# EAGLE library part DIN_32_A_C_REQUEST (library Stecker_Pins)
Messerleiste 32, A & C, request
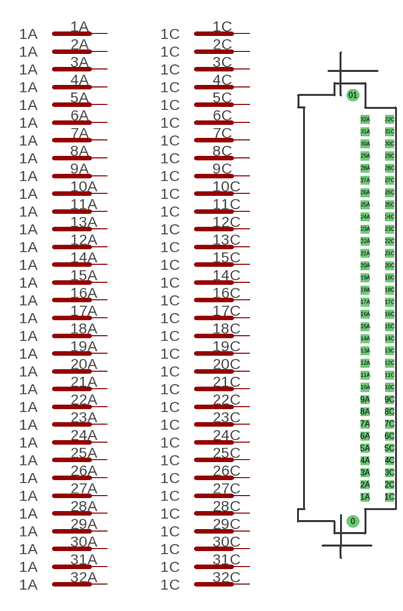
[diagram p19: symbol with the pads of DIN_32A_C; footprint DIN_32A_C]

Designator prefix K; gates G$1=PIN_A G$2=PIN_A G$3=PIN_A G$4=PIN_A G$5=PIN_A G$6=PIN_A G$7=PIN_A G$8=PIN_A G$9=PIN_A G$10=PIN_A G$11=PIN_A G$12=PIN_A G$13=PIN_A G$14=PIN_A G$15=PIN_A G$16=PIN_A G$17=PIN_A G$18=PIN_A G$19=PIN_A G$20=PIN_A G$21=PIN_A G$22=PIN_A G$23=PIN_A G$24=PIN_A G$25=PIN_A G$26=PIN_A G$27=PIN_A G$28=PIN_A G$29=PIN_A G$30=PIN_A G$31=PIN_A G$32=PIN_A G$33=PIN_C G$34=PIN_C G$35=PIN_C G$36=PIN_C G$37=PIN_C G$38=PIN_C G$39=PIN_C G$40=PIN_C G$41=PIN_C G$42=PIN_C G$43=PIN_C G$44=PIN_C G$45=PIN_C G$46=PIN_C G$47=PIN_C G$48=PIN_C G$49=PIN_C G$50=PIN_C G$51=PIN_C G$52=PIN_C G$53=PIN_C G$54=PIN_C G$55=PIN_C G$56=PIN_C G$57=PIN_C G$58=PIN_C G$59=PIN_C G$60=PIN_C G$61=PIN_C G$62=PIN_C G$63=PIN_C G$64=PIN_C

## DIN_32_A_C_REQUEST  [DIN_32A_C]
1A  G$1:1A
1C  G$33:1C
2A  G$2:1A
2C  G$34:1C
3A  G$3:1A
3C  G$35:1C
4A  G$4:1A
4C  G$36:1C
5A  G$5:1A
5C  G$37:1C
6A  G$6:1A
6C  G$38:1C
7A  G$7:1A
7C  G$39:1C
8A  G$8:1A
8C  G$40:1C
9A  G$9:1A
9C  G$41:1C
10A  G$10:1A
10C  G$42:1C
11A  G$11:1A
11C  G$43:1C
12A  G$12:1A
12C  G$44:1C
13A  G$13:1A
13C  G$45:1C
14A  G$14:1A
14C  G$46:1C
15A  G$15:1A
15C  G$47:1C
16A  G$16:1A
16C  G$48:1C
17A  G$17:1A
17C  G$49:1C
18A  G$18:1A
18C  G$50:1C
19A  G$19:1A
19C  G$51:1C
20A  G$20:1A
20C  G$52:1C
21A  G$21:1A
21C  G$53:1C
22A  G$22:1A
22C  G$54:1C
23A  G$23:1A
23C  G$55:1C
24A  G$24:1A
24C  G$56:1C
25A  G$25:1A
25C  G$57:1C
26A  G$26:1A
26C  G$58:1C
27A  G$27:1A
27C  G$59:1C
28A  G$28:1A
28C  G$60:1C
29A  G$29:1A
29C  G$61:1C
30A  G$30:1A
30C  G$62:1C
31A  G$31:1A
31C  G$63:1C
32A  G$32:1A
32C  G$64:1C

## Footprint DIN_32A_C (pad centres in mm)
drill 0.6 pad 2.54: 0 0,-44.45
drill 0.813 pad 2.54: 01 0,44.45
drill 0.8 pad 1.778 square: 1A 2.54,-39.37; 1C 7.62,-39.37; 2A 2.54,-36.83; 2C 7.62,-36.83; 3A 2.54,-34.29; 3C 7.62,-34.29; 4A 2.54,-31.75; 4C 7.62,-31.75; 5A 2.54,-29.21; 5C 7.62,-29.21; 6A 2.54,-26.67; 6C 7.62,-26.67; 7A 2.54,-24.13; 7C 7.62,-24.13; 8A 2.54,-21.59; 8C 7.62,-21.59; 9A 2.54,-19.05; 9C 7.62,-19.05; 10A 2.54,-16.51; 10C 7.62,-16.51; 11A 2.54,-13.97; 11C 7.62,-13.97; 12A 2.54,-11.43; 12C 7.62,-11.43; 13A 2.54,-8.89; 13C 7.62,-8.89; 14A 2.54,-6.35; 14C 7.62,-6.35; 15A 2.54,-3.81; 15C 7.62,-3.81; 16A 2.54,-1.27; 16C 7.62,-1.27; 17A 2.54,1.27; 17C 7.62,1.27; 18A 2.54,3.81; 18C 7.62,3.81; 19A 2.54,6.35; 19C 7.62,6.35; 20A 2.54,8.89; 20C 7.62,8.89; 21A 2.54,11.43; 21C 7.62,11.43; 22A 2.54,13.97; 22C 7.62,13.97; 23A 2.54,16.51; 23C 7.62,16.51; 24A 2.54,19.05; 24C 7.62,19.05; 25A 2.54,21.59; 25C 7.62,21.59; 26A 2.54,24.13; 26C 7.62,24.13; 27A 2.54,26.67; 27C 7.62,26.67; 28A 2.54,29.21; 28C 7.62,29.21; 29A 2.54,31.75; 29C 7.62,31.75; 30A 2.54,34.29; 30C 7.62,34.29; 31A 2.54,36.83; 31C 7.62,36.83; 32A 2.54,39.37; 32C 7.62,39.37